# EAGLE library part TORX1952 (library reprapltd)
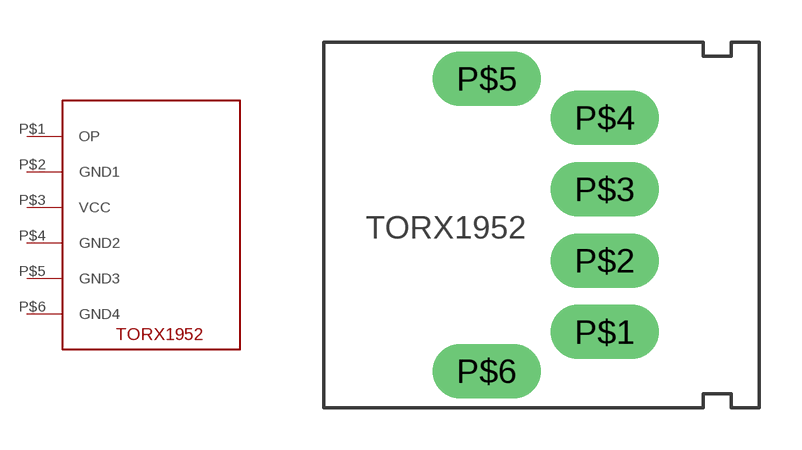
[diagram p2: symbol with the pads of TORX1952; footprint TORX1952]

Designator prefix -

## TORX1952  [TORX1952]
P$1  OP  out
P$2  GND1  pwr
P$3  VCC  pwr
P$4  GND2  pwr
P$5  GND3  pwr
P$6  GND4  pwr

## Footprint TORX1952 (pad centres in mm)
drill 0.8 pad 1.93 long: P$1 -7.62,-2.54; P$2 -7.62,0; P$3 -7.62,2.54; P$4 -7.62,5.08; P$5 -11.82,6.47; P$6 -11.82,-3.93